# EAGLE library part ESP8266_PROG (library dragCustom)
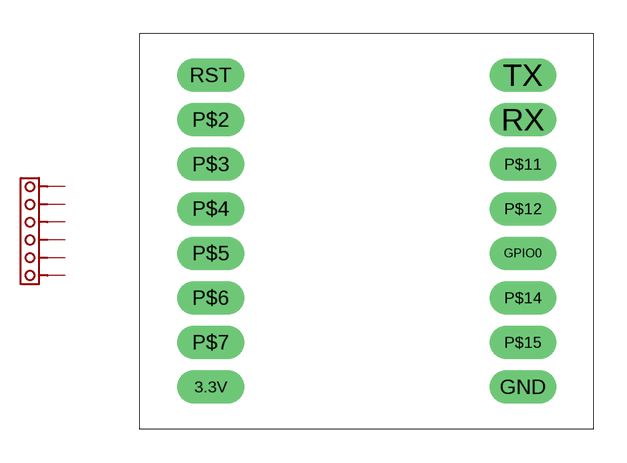
[diagram p14: symbol with the pads of ESP12_PROG; footprint ESP12_PROG]

Designator prefix -

## ESP8266_PROG  [ESP12_PROG]
3.3V  3.3V
GND  GND
GPIO0  GPIO0
RST  RST
RX  RX
TX  TX

## Footprint ESP12_PROG (pad centres in mm)
drill 1 long: 3.3V -7,-7; GND 7,-7; GPIO0 7,-1; P$2 -7,5; P$3 -7,3; P$4 -7,1; P$5 -7,-1; P$6 -7,-3; P$7 -7,-5; P$11 7,3; P$12 7,1; P$14 7,-3; P$15 7,-5; RST -7,7; RX 7,5; TX 7,7